# EAGLE library part 6809E (library A-14732-40009)
Motorola 6809E microprocessor in DIP40 package
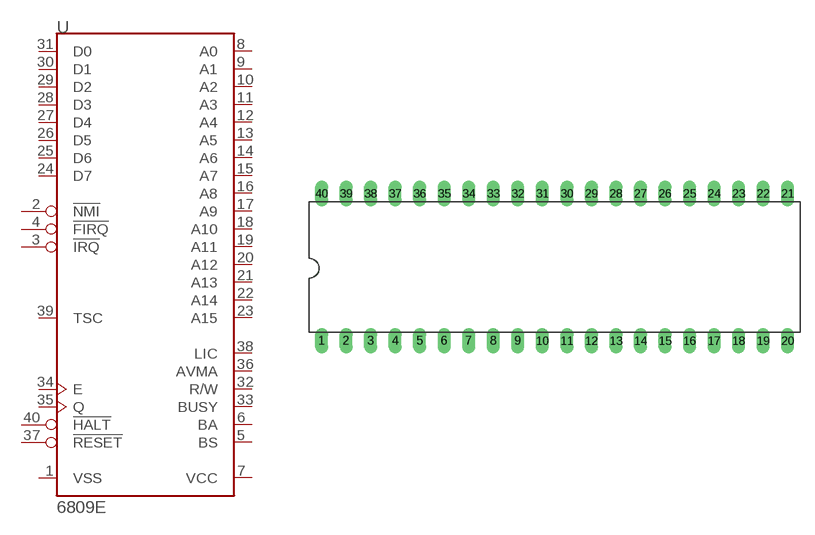
[diagram p0: symbol with the pads of DIP40; footprint DIP40]

Designator prefix U

## 6809E  [DIP40]
1  VSS  pas
2  !NMI  pas
3  !IRQ  pas
4  !FIRQ  pas
5  BS  pas
6  BA  pas
7  VCC  pas
8  A0  pas
9  A1  pas
10  A2  pas
11  A3  pas
12  A4  pas
13  A5  pas
14  A6  pas
15  A7  pas
16  A8  pas
17  A9  pas
18  A10  pas
19  A11  pas
20  A12  pas
21  A13  pas
22  A14  pas
23  A15  pas
24  D7  pas
25  D6  pas
26  D5  pas
27  D4  pas
28  D3  pas
29  D2  pas
30  D1  pas
31  D0  pas
32  R/W  pas
33  BUSY  pas
34  E  pas
35  Q  pas
36  AVMA  pas
37  !RESET  pas
38  LIC  pas
39  TSC  pas
40  !HALT  pas

## Footprint DIP40 (pad centres in mm)
Dual In Line Package 40 pin
drill 0.813 long: 1 -24.13,-7.62; 2 -21.59,-7.62; 3 -19.05,-7.62; 4 -16.51,-7.62; 5 -13.97,-7.62; 6 -11.43,-7.62; 7 -8.89,-7.62; 8 -6.35,-7.62; 9 -3.81,-7.62; 10 -1.27,-7.62; 11 1.27,-7.62; 12 3.81,-7.62; 13 6.35,-7.62; 14 8.89,-7.62; 15 11.43,-7.62; 16 13.97,-7.62; 17 16.51,-7.62; 18 19.05,-7.62; 19 21.59,-7.62; 20 24.13,-7.62; 21 24.13,7.62; 22 21.59,7.62; 23 19.05,7.62; 24 16.51,7.62; 25 13.97,7.62; 26 11.43,7.62; 27 8.89,7.62; 28 6.35,7.62; 29 3.81,7.62; 30 1.27,7.62; 31 -1.27,7.62; 32 -3.81,7.62; 33 -6.35,7.62; 34 -8.89,7.62; 35 -11.43,7.62; 36 -13.97,7.62; 37 -16.51,7.62; 38 -19.05,7.62; 39 -21.59,7.62; 40 -24.13,7.62